# Altium footprint library LGA-14_3x5mm.PcbLib: 1 footprints
Each footprint in its own frame and in the unit in brackets; x right, y up, seen from the top. Pads: shape width x height; smd on the part's side, far side on the other; paste and mask are expansions set on the pad; w line width, h text height; cw(c..) or ccw(c..) is an arc to the next point about the centre after c.
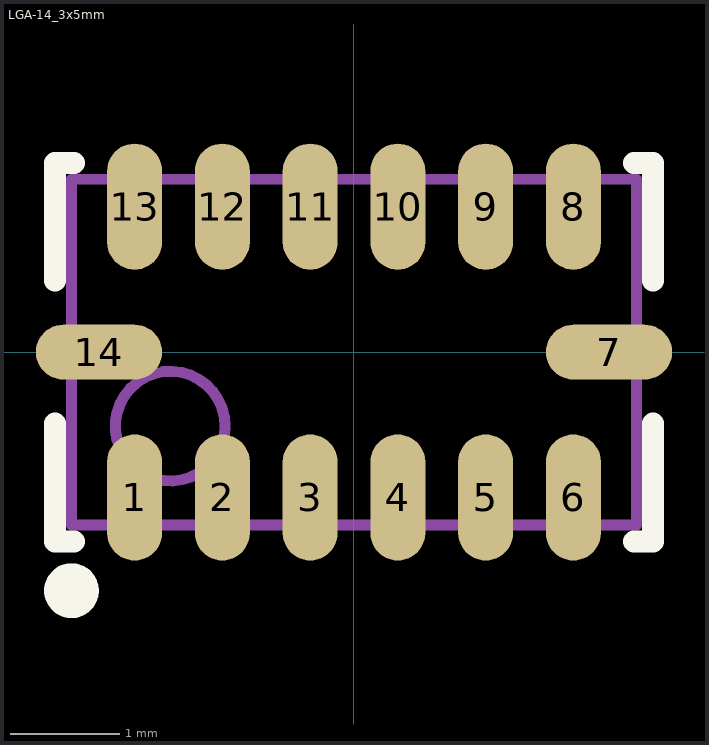
[diagram p0: the footprint, top view; thin cyan lines are the x and y axes]

## LGA-14_3x5mm [mm]
pads (14):
  oval 0.5x1.15 smd mask+0.051: 1(-2,-1.325) 2(-1.2,-1.325) 3(-0.4,-1.325) 4(0.4,-1.325) 5(1.2,-1.325) 6(2,-1.325) 8(2,1.325) 9(1.2,1.325) 10(0.4,1.325) 11(-0.4,1.325) 12(-1.2,1.325) 13(-2,1.325)
  oval 1.15x0.5 smd mask+0.051: 7(2.325,0) 14(-2.325,0)
Top Overlay:
  circle w0.25: c-2.575,-2.175 r0.125
  lines w0.2: -2.725,-0.65 -2.725,-1.725 -2.55,-1.725 ; -2.725,0.65 -2.725,1.725 -2.55,1.725 ; 2.55,-1.725 2.725,-1.725 2.725,-0.65 ; 2.55,1.725 2.725,1.725 2.725,0.65
Mechanical 13:
  circle w0.1: c-1.675,-0.675 r0.5
  lines w0.1: -2.575,-1.575 -2.575,1.575 2.575,1.575 2.575,-1.575 -2.575,-1.575